# EAGLE library part 741-16_S (library resistor-array)
CTS 741 Series 16 Terminations, 8 Resistors
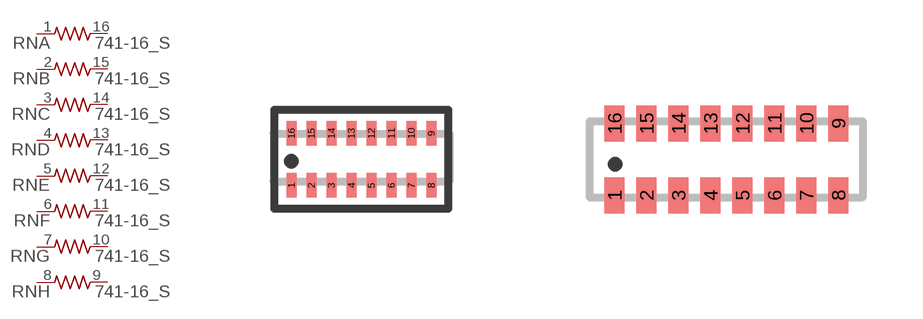
[diagram p9: symbol with the pads of 741-16; footprints 741-16, 742-16NS]

Designator prefix RN; gates A=R1NV B=R1NV C=R1NV D=R1NV E=R1NV F=R1NV G=R1NV H=R1NV

## 741-16_S  [741-16]
1  A:1  pas
2  B:1  pas
3  C:1  pas
4  D:1  pas
5  E:1  pas
6  F:1  pas
7  G:1  pas
8  H:1  pas
9  H:2  pas
10  G:2  pas
11  F:2  pas
12  E:2  pas
13  D:2  pas
14  C:2  pas
15  B:2  pas
16  A:2  pas

## 741-16_SNS  [742-16NS]
Pads as for 741-16

## Footprint 741-16 (pad centres in mm)
CTS 741 Series 16 Terminations, 8 Resistors
smd 0.25 x 0.61: 1 -1.75,-0.65; 2 -1.25,-0.65; 3 -0.75,-0.65; 4 -0.25,-0.65; 5 0.25,-0.65; 6 0.75,-0.65; 7 1.25,-0.65; 8 1.75,-0.65; 9 1.75,0.65; 10 1.25,0.65; 11 0.75,0.65; 12 0.25,0.65; 13 -0.25,0.65; 14 -0.75,0.65; 15 -1.25,0.65; 16 -1.75,0.65

## Footprint 742-16NS (pad centres in mm)
CTS 742 Series 16 Terminations, 8 Resistors
smd 0.5 x 0.9: 1 -2.8,-0.9; 2 -2,-0.9; 3 -1.2,-0.9; 4 -0.4,-0.9; 5 0.4,-0.9; 6 1.2,-0.9; 7 2,-0.9; 8 2.8,-0.9; 9 2.8,0.9; 10 2,0.9; 11 1.2,0.9; 12 0.4,0.9; 13 -0.4,0.9; 14 -1.2,0.9; 15 -2,0.9; 16 -2.8,0.9